# Altium schematic symbol library C0805C270J5GACTU.SchLib: 1 symbol
Pins are listed as number, name and electrical type; pins without a type are passive.

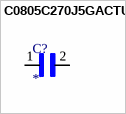
[diagram p0: symbol C0805C270J5GACTU]

## C0805C270J5GACTU
designator C?
Ceramic Multilayer Capacitor; Capacitor Type:General Purpose; Capacitance:27pF; Capacitance Tolerance:Â± 5%; Voltage Rating:50V; Capacitor Dielectric Type:Multilayer Ceramic; Package/Case:0805; Termination Type:SMD ;RoHS Compliant: Yes; MP: C0805C270J5GACTU; MF: {'manufacturer': u'KEMET'}; Value: *; Package: None; Price: None; Availability: Unavailable
footprint CAPC2012X88N
pins: 1, 2